# Altium footprint library 693071020811.PcbLib: 1 footprints
Each footprint in its own frame and in the unit in brackets; x right, y up, seen from the top. Pads: shape width x height; smd on the part's side, far side on the other; paste and mask are expansions set on the pad; w line width, h text height; cw(c..) or ccw(c..) is an arc to the next point about the centre after c.
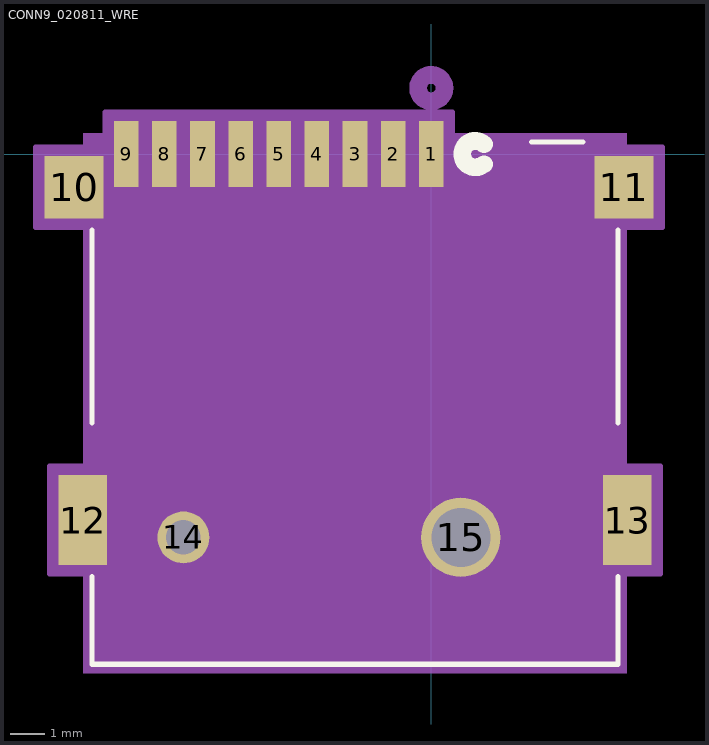
[diagram p0: the footprint, top view; thin cyan lines are the x and y axes]

## CONN9_020811_WRE [mil]
pads (15):
  rect 28x75 smd paste+0 mask+0: 1(0,0) 2(-43.31,0) 3(-86.61,0) 4(-129.92,0) 5(-173.23,0) 6(-216.54,0) 7(-259.84,0) 8(-303.15,0) 9(-346.46,0)
  rect 67x71 smd: 10(-405.51,-37.48) 11(218.5,-37.48)
  rect 55x102 smd: 12(-395.67,-415.43) 13(222.44,-415.43)
  round 59 hole 39: 14(-281.5,-435.12)
  round 90 hole 66.93: 15(33.47,-435.12)
Top Overlay:
  lines w6: -385.11,-479.53 -385.11,-579.26 211.89,-579.26 211.89,-479.53 ; -385.11,-305.11 -385.11,-86.08 ; 113.71,13.74 171.9,13.74 ; 211.89,-305.11 211.89,-86.08
  lines w20: 59.78,-11.37 cw(c50,0) 59.78,11.37
Bottom Overlay:
  circle w20: c50,0 r15
Mechanical 5:
  region: -395.11,23.74 221.89,23.74 221.89,-589.26 -395.11,-589.26
Mechanical 13:
  circle w20: c0,75 r15
  lines w1: -380.11,-574.26 206.89,-574.26 206.89,8.74 -380.11,8.74 -380.11,-574.26
Mechanical 15:
  region: 216.89,-354.43 216.89,-82.98 262,-82.98 262,8.02 216.89,8.02 216.89,18.74 24,18.74 24,47.5 -370.46,47.5 -370.46,18.74 -390.11,18.74 -390.11,8.02 -449.01,8.02 -449.01,-82.98 -390.11,-82.98 -390.11,-354.43 -433.17,-354.43 -433.17,-476.43 -390.11,-476.43 -390.11,-584.26 216.89,-584.26 216.89,-476.43 259.94,-476.43 259.94,-354.43
  lines w6: -449.01,-82.98 -449.01,8.02 -390.11,8.02 -390.11,18.74 -370.46,18.74 -370.46,47.5 24,47.5 24,18.74 216.89,18.74 216.89,8.02 262,8.02 262,-82.98 216.89,-82.98 216.89,-354.43 259.94,-354.43 259.94,-476.43 216.89,-476.43 216.89,-584.26 -390.11,-584.26 -390.11,-476.43 -433.17,-476.43 -433.17,-354.43 -390.11,-354.43 -390.11,-82.98 -449.01,-82.98
3D body: height 10, standoff 0, extent 0,0 10,10